# Altium integrated library TI Amplifiers and Linear Operational Amplifier High Speed.IntLib: 1100 symbols (part 3 of 44)
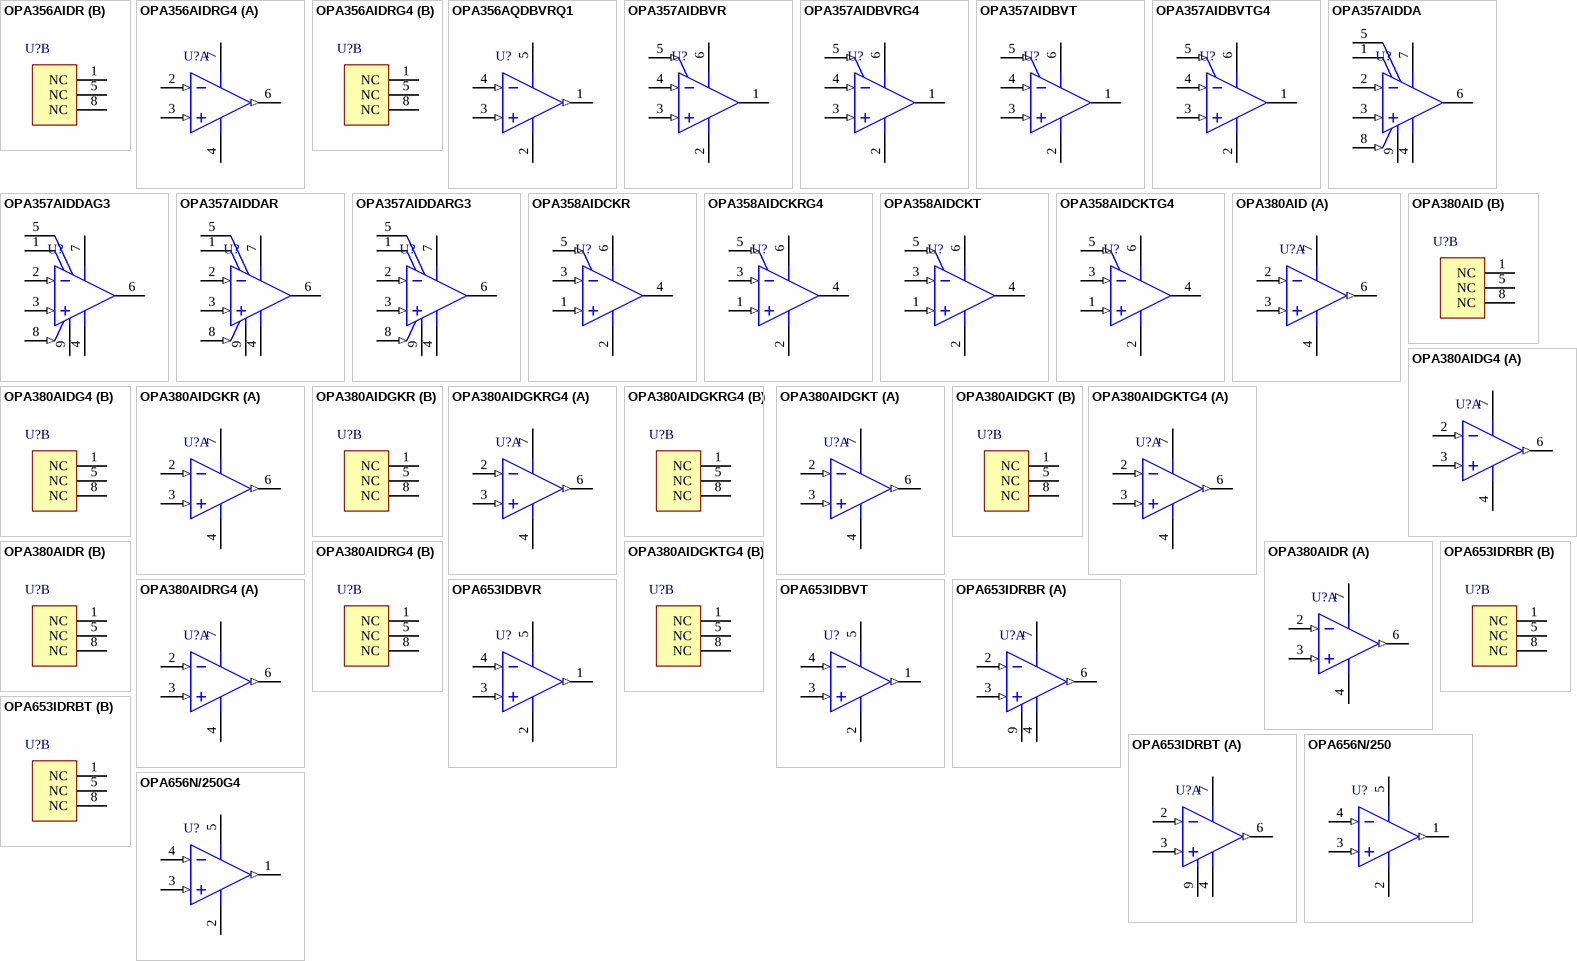
[diagram p53: symbols OPA356AIDR to OPA656N/250G4]

## OPA653IDBVR
designator U?
500 MHz, Fixed Gain of + 2 V/V, JFET Input Amplifier, 7 to 13 V, -40 to 85 degC, 5-pin SOT23 (DBV5), Green (RoHS & no Sb/Br); Manufacturer: Texas Instruments; PartNumber: OPA653IDBVR; 2nd Harmonic(dBc): 72; 3rd Harmonic(dBc): 90; @ MHz: 10; Acl, min stable gain(V/V): 2; BW @ Acl(MHz): 500; Iib(Max)(nA): 1.2; Io(Typ)(mA): 70; Iq per channel(Max)(mA): 33.5; Number of Channels: 1; Slew Rate(Typ)(V/us): 2675; Sub Family: High Output Current Amplifier (>=50mA), High Speed Amplifier (>=50MHz); THD (Fc is 1 MHz)(Typ)(dB): -72; Vio(Max)(mV): 5; Vn at Flatband(Typ)(nV/rtHz): 6.1; Vs(Max)(V): 13; Vs(Min)(V): 7; DatasheetVersion: SBOS348A; PackageVersion: 4073253-4/K, 03/2006; PackageReference: DBV5; PackageDescription: 5-Pin Plastic Small Outline, Body 1.6 x 2.9 mm, Pitch 0.95 mm; Supplier 1: Digi-Key; Supplier Part Number 1: OPA653IDBVR-ND; Supplier 2: Mouser; Supplier Part Number 2: 595-OPA653IDBVR; Eco-Plan: Green (RoHS & no Sb/Br); Mounting Technology: Surface Mount; Code_JEDEC: MO-178; ComponentLink1Description: Manufacturer URL; ComponentLink1URL: http://www.ti.com/; ComponentLink2Description: Datasheet; ComponentLink2URL: http://www.ti.com/general/docs/lit/getliterature.tsp?genericPartNumber=OPA653&fileType=pdf; ComponentLink3Description: Package Specification; ComponentLink3URL: http://www.ti.com/litv/pdf/mpds018i
footprint TI-DBV5_N (SOT23, 5-Leads, Body 2.9x1.6mm, Pitch 0.95mm, IPC Medium Density)
footprint TI-DBV5_L (SOT23, 5-Leads, Body 2.9x1.6mm, Pitch 0.95mm, IPC High Density)
footprint TI-DBV5_M (SOT23, 5-Leads, Body 2.9x1.6mm, Pitch 0.95mm, IPC Low Density)
pins: 1 VOUT (out), 2 VS- (power), 3 VIN+ (in), 4 VIN- (in), 5 VS+ (power)

## OPA653IDBVT
designator U?
500 MHz, Fixed Gain of + 2 V/V, JFET Input Amplifier, 7 to 13 V, -40 to 85 degC, 5-pin SOT23 (DBV5), Green (RoHS & no Sb/Br); Manufacturer: Texas Instruments; PartNumber: OPA653IDBVT; 2nd Harmonic(dBc): 72; 3rd Harmonic(dBc): 90; @ MHz: 10; Acl, min stable gain(V/V): 2; BW @ Acl(MHz): 500; Iib(Max)(nA): 1.2; Io(Typ)(mA): 70; Iq per channel(Max)(mA): 33.5; Number of Channels: 1; Slew Rate(Typ)(V/us): 2675; Sub Family: High Output Current Amplifier (>=50mA), High Speed Amplifier (>=50MHz); THD (Fc is 1 MHz)(Typ)(dB): -72; Vio(Max)(mV): 5; Vn at Flatband(Typ)(nV/rtHz): 6.1; Vs(Max)(V): 13; Vs(Min)(V): 7; DatasheetVersion: SBOS348A; PackageVersion: 4073253-4/K, 03/2006; PackageReference: DBV5; PackageDescription: 5-Pin Plastic Small Outline, Body 1.6 x 2.9 mm, Pitch 0.95 mm; Supplier 1: Digi-Key; Supplier Part Number 1: 296-25788-2-ND; Supplier 2: Digi-Key; Supplier Part Number 2: 296-25788-1-ND; Supplier 3: Digi-Key; Supplier Part Number 3: 296-25788-6-ND; Supplier 4: Mouser; Supplier Part Number 4: 595-OPA653IDBVT; Eco-Plan: Green (RoHS & no Sb/Br); Mounting Technology: Surface Mount; Code_JEDEC: MO-178; ComponentLink1Description: Manufacturer URL; ComponentLink1URL: http://www.ti.com/; ComponentLink2Description: Datasheet; ComponentLink2URL: http://www.ti.com/general/docs/lit/getliterature.tsp?genericPartNumber=OPA653&fileType=pdf; ComponentLink3Description: Package Specification; ComponentLink3URL: http://www.ti.com/litv/pdf/mpds018i
footprint TI-DBV5_N (SOT23, 5-Leads, Body 2.9x1.6mm, Pitch 0.95mm, IPC Medium Density)
footprint TI-DBV5_L (SOT23, 5-Leads, Body 2.9x1.6mm, Pitch 0.95mm, IPC High Density)
footprint TI-DBV5_M (SOT23, 5-Leads, Body 2.9x1.6mm, Pitch 0.95mm, IPC Low Density)
pins: 1 VOUT (out), 2 VS- (power), 3 VIN+ (in), 4 VIN- (in), 5 VS+ (power)

## OPA653IDRBR
designator U?
500 MHz, Fixed Gain of + 2 V/V, JFET Input Amplifier, 7 to 13 V, -40 to 85 degC, 8-pin SON (DRB8), Green (RoHS & no Sb/Br); Manufacturer: Texas Instruments; PartNumber: OPA653IDRBR; 2nd Harmonic(dBc): 72; 3rd Harmonic(dBc): 90; @ MHz: 10; Acl, min stable gain(V/V): 2; BW @ Acl(MHz): 500; Iib(Max)(nA): 1.2; Io(Typ)(mA): 70; Iq per channel(Max)(mA): 33.5; Number of Channels: 1; Slew Rate(Typ)(V/us): 2675; Sub Family: High Output Current Amplifier (>=50mA), High Speed Amplifier (>=50MHz); THD (Fc is 1 MHz)(Typ)(dB): -72; Vio(Max)(mV): 5; Vn at Flatband(Typ)(nV/rtHz): 6.1; Vs(Max)(V): 13; Vs(Min)(V): 7; DatasheetVersion: SBOS348A; PackageVersion: 4203482-2/K, 06/2012; PackageReference: DRB8-1750X1500TP; PackageDescription: 8-Pin Plastic Small Outline, Body 3 x 3 mm, Pitch 0.65 mm; Supplier 1: Digi-Key; Supplier Part Number 1: OPA653IDRBR-ND; Supplier 2: Mouser; Supplier Part Number 2: 595-OPA653IDRBR; Eco-Plan: Green (RoHS & no Sb/Br); Mounting Technology: Surface Mount; ComponentLink1Description: Manufacturer URL; ComponentLink1URL: http://www.ti.com/; ComponentLink2Description: Datasheet; ComponentLink2URL: http://www.ti.com/general/docs/lit/getliterature.tsp?genericPartNumber=OPA653&fileType=pdf; ComponentLink3Description: Package Specification; ComponentLink3URL: http://www.ti.com/litv/pdf/mpds118h
footprint TI-DRB8-1750X1500TP_V (SON, 8-Leads, Body 3x3mm, Pitch 0.65mm, Thermal Pad 1.50 x 3.8mm)
part A pins: 2 VIN- (in), 3 VIN+ (in), 4 VS- (power), 6 VOUT (out), 7 VS+ (power), 9 EP
part B pins: 1 NC, 5 NC, 8 NC

## OPA653IDRBT
designator U?
500 MHz, Fixed Gain of + 2 V/V, JFET Input Amplifier, 7 to 13 V, -40 to 85 degC, 8-pin SON (DRB8), Green (RoHS & no Sb/Br); Manufacturer: Texas Instruments; PartNumber: OPA653IDRBT; 2nd Harmonic(dBc): 72; 3rd Harmonic(dBc): 90; @ MHz: 10; Acl, min stable gain(V/V): 2; BW @ Acl(MHz): 500; Iib(Max)(nA): 1.2; Io(Typ)(mA): 70; Iq per channel(Max)(mA): 33.5; Number of Channels: 1; Settling Time (0.1%)(Typ)(ns): 7.9; Slew Rate(Typ)(V/us): 2675; Sub Family: High Output Current Amplifier (>=50mA), High Speed Amplifier (>=50MHz); THD (Fc is 1 MHz)(Typ)(dB): -72; Vio(Max)(mV): 5; Vn at Flatband(Typ)(nV/rtHz): 6.1; Vs(Max)(V): 13; Vs(Min)(V): 7; DatasheetVersion: SBOS348A; PackageVersion: 4203482-2/K, 06/2012; PackageReference: DRB8-1750X1500TP; PackageDescription: 8-Pin Plastic Small Outline, Body 3 x 3 mm, Pitch 0.65 mm; Supplier 1: Digi-Key; Supplier Part Number 1: 296-24073-2-ND; Supplier 2: Digi-Key; Supplier Part Number 2: 296-24073-1-ND; Supplier 3: Digi-Key; Supplier Part Number 3: 296-24073-6-ND; Supplier 4: Farnell; Supplier Part Number 4: 1710800; Supplier 5: Newark; Supplier Part Number 5: 15R2147; Supplier 6: Mouser; Supplier Part Number 6: 595-OPA653IDRBT; Eco-Plan: Green (RoHS & no Sb/Br); Mounting Technology: Surface Mount; ComponentLink1Description: Manufacturer URL; ComponentLink1URL: http://www.ti.com/; ComponentLink2Description: Datasheet; ComponentLink2URL: http://www.ti.com/general/docs/lit/getliterature.tsp?genericPartNumber=OPA653&fileType=pdf; ComponentLink3Description: Package Specification; ComponentLink3URL: http://www.ti.com/litv/pdf/mpds118h
footprint TI-DRB8-1750X1500TP_V (SON, 8-Leads, Body 3x3mm, Pitch 0.65mm, Thermal Pad 1.50 x 3.8mm)
part A pins: 2 VIN- (in), 3 VIN+ (in), 4 VS- (power), 6 VOUT (out), 7 VS+ (power), 9 EP
part B pins: 1 NC, 5 NC, 8 NC

## OPA656N/250
designator U?
Wideband, Unity Gain Stable FET-Input Operational Amplifier, 10 to 12 V, -40 to 85 degC, 5-pin SOT23 (DBV5), Green (RoHS & no Sb/Br); Manufacturer: Texas Instruments; PartNumber: OPA656N/250; 2nd Harmonic(dBc): 74; 3rd Harmonic(dBc): 100; @ MHz: 5; Acl, min stable gain(V/V): 1; BW @ Acl(MHz): 500; Diff Gain(%): 0.02; Diff Phase(deg): 0.05; Io(Typ)(mA): 70; Iq per channel(Max)(mA): 16; Slew Rate(Typ)(V/us): 290; Sub Family: High Output Current Amplifier (>=50mA), High Speed Amplifier (>=50MHz), Low Input Bias Current Amp (<=10pA); THD (Fc is 1 MHz)(Typ)(dB): -74; Vio(Max)(mV): 0.6; Vn at Flatband(Typ)(nV/rtHz): 7; Vs(Max)(V): 12; Vs(Min)(V): 10; DatasheetVersion: SBOS196G; PackageVersion: 4073253-4/K, 03/2006; PackageReference: DBV5; PackageDescription: 5-Pin Plastic Small Outline, Body 1.6 x 2.9 mm, Pitch 0.95 mm; Supplier 1: Digi-Key; Supplier Part Number 1: OPA656N/250TR-ND; Supplier 2: Digi-Key; Supplier Part Number 2: OPA656N/250CT-ND; Supplier 3: Digi-Key; Supplier Part Number 3: OPA656N/250DKR-ND; Supplier 4: Newark; Supplier Part Number 4: 86W6764; Supplier 5: Newark; Supplier Part Number 5: 75C5133; Supplier 6: Mouser; Supplier Part Number 6: 595-OPA656N/250; Eco-Plan: Green (RoHS & no Sb/Br); Iib(Max)(nA): 0.02; Number of Channels: 1; Settling Time (0.1%)(Typ)(ns): 16; Mounting Technology: Surface Mount; Code_JEDEC: MO-178; ComponentLink1Description: Manufacturer URL; ComponentLink1URL: http://www.ti.com/; ComponentLink2Description: Datasheet; ComponentLink2URL: http://www.ti.com/general/docs/lit/getliterature.tsp?genericPartNumber=OPA656&fileType=pdf; ComponentLink3Description: Package Specification; ComponentLink3URL: http://www.ti.com/litv/pdf/mpds018i
footprint TI-DBV5_N (SOT23, 5-Leads, Body 2.9x1.6mm, Pitch 0.95mm, IPC Medium Density)
footprint TI-DBV5_L (SOT23, 5-Leads, Body 2.9x1.6mm, Pitch 0.95mm, IPC High Density)
footprint TI-DBV5_M (SOT23, 5-Leads, Body 2.9x1.6mm, Pitch 0.95mm, IPC Low Density)
pins: 1 OUT (out), 2 VS- (power), 3 IN+ (in), 4 IN- (in), 5 VS+ (power)

## OPA656N/250G4
designator U?
Wideband, Unity Gain Stable FET-Input Operational Amplifier, 10 to 12 V, -40 to 85 degC, 5-pin SOT23 (DBV5), Green (RoHS & no Sb/Br); Manufacturer: Texas Instruments; PartNumber: OPA656N/250G4; 2nd Harmonic(dBc): 74; 3rd Harmonic(dBc): 100; @ MHz: 5; Acl, min stable gain(V/V): 1; BW @ Acl(MHz): 500; Diff Gain(%): 0.02; Diff Phase(deg): 0.05; Io(Typ)(mA): 70; Iq per channel(Max)(mA): 16; Slew Rate(Typ)(V/us): 290; Sub Family: High Output Current Amplifier (>=50mA), High Speed Amplifier (>=50MHz), Low Input Bias Current Amp (<=10pA); THD (Fc is 1 MHz)(Typ)(dB): -74; Vio(Max)(mV): 0.6; Vn at Flatband(Typ)(nV/rtHz): 7; Vs(Max)(V): 12; Vs(Min)(V): 10; DatasheetVersion: SBOS196G; PackageVersion: 4073253-4/K, 03/2006; PackageReference: DBV5; PackageDescription: 5-Pin Plastic Small Outline, Body 1.6 x 2.9 mm, Pitch 0.95 mm; Supplier 1: Digi-Key; Supplier Part Number 1: OPA656N/250G4-ND; Supplier 2: Mouser; Supplier Part Number 2: 595-OPA656N/250G4; Eco-Plan: Green (RoHS & no Sb/Br); Iib(Max)(nA): 0.02; Number of Channels: 1; Settling Time (0.1%)(Typ)(ns): 16; Mounting Technology: Surface Mount; Code_JEDEC: MO-178; ComponentLink1Description: Manufacturer URL; ComponentLink1URL: http://www.ti.com/; ComponentLink2Description: Datasheet; ComponentLink2URL: http://www.ti.com/general/docs/lit/getliterature.tsp?genericPartNumber=OPA656&fileType=pdf; ComponentLink3Description: Package Specification; ComponentLink3URL: http://www.ti.com/litv/pdf/mpds018i
footprint TI-DBV5_N (SOT23, 5-Leads, Body 2.9x1.6mm, Pitch 0.95mm, IPC Medium Density)
footprint TI-DBV5_L (SOT23, 5-Leads, Body 2.9x1.6mm, Pitch 0.95mm, IPC High Density)
footprint TI-DBV5_M (SOT23, 5-Leads, Body 2.9x1.6mm, Pitch 0.95mm, IPC Low Density)
pins: 1 OUT (out), 2 VS- (power), 3 IN+ (in), 4 IN- (in), 5 VS+ (power)

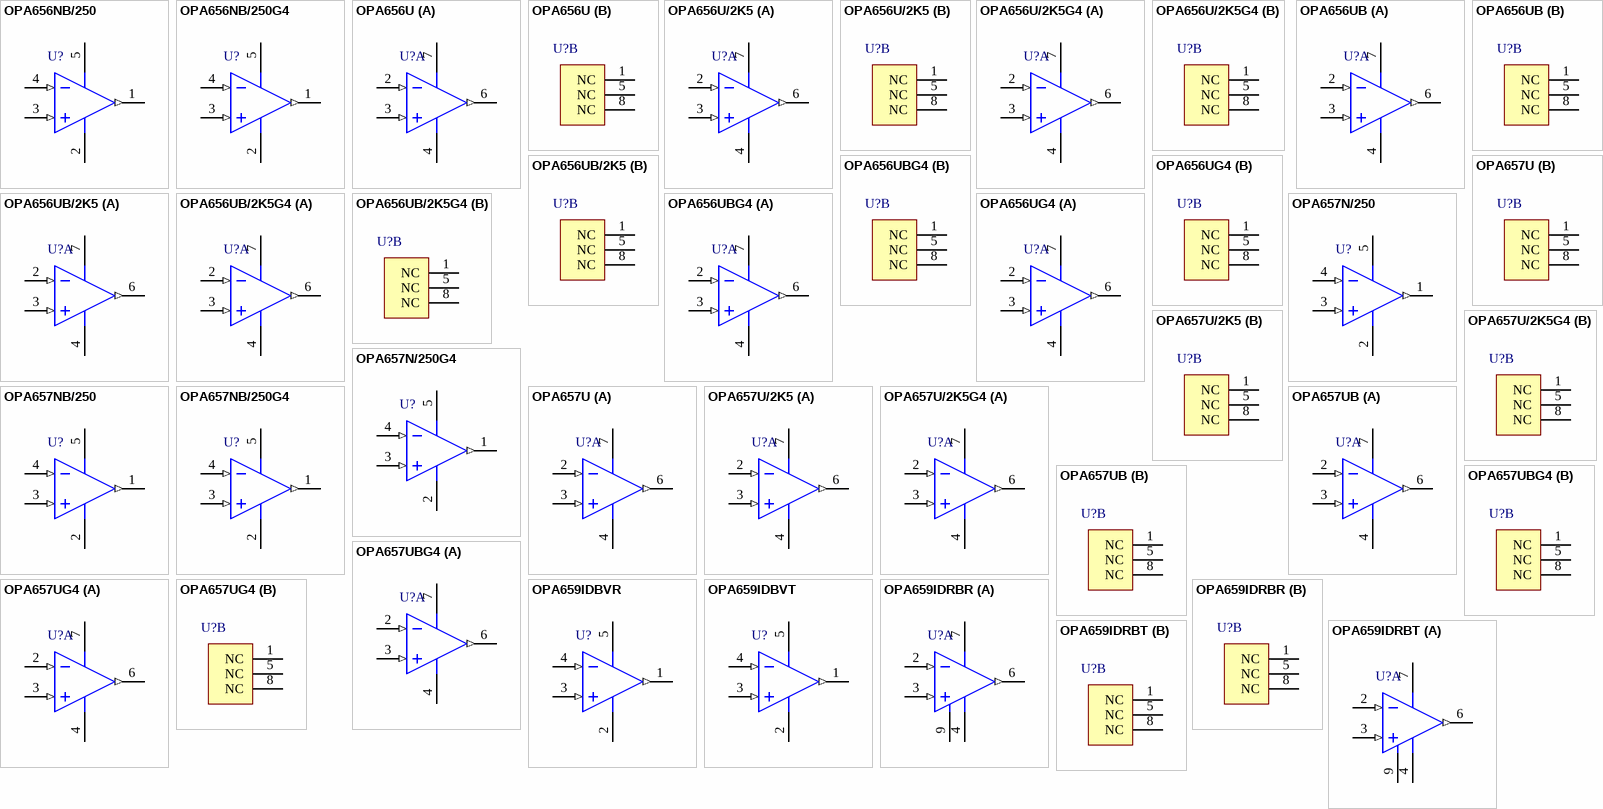
[diagram p2: symbols OPA656NB/250 to OPA659IDRBT]

## OPA656NB/250
designator U?
Wideband, Unity Gain Stable FET-Input Operational Amplifier, 10 to 12 V, -40 to 85 degC, 5-pin SOT23 (DBV5), Green (RoHS & no Sb/Br); Manufacturer: Texas Instruments; PartNumber: OPA656NB/250; 2nd Harmonic(dBc): 74; 3rd Harmonic(dBc): 100; @ MHz: 5; Acl, min stable gain(V/V): 1; BW @ Acl(MHz): 500; Diff Gain(%): 0.02; Diff Phase(deg): 0.05; Io(Typ)(mA): 70; Iq per channel(Max)(mA): 16; Slew Rate(Typ)(V/us): 290; Sub Family: High Output Current Amplifier (>=50mA), High Speed Amplifier (>=50MHz), Low Input Bias Current Amp (<=10pA); THD (Fc is 1 MHz)(Typ)(dB): -74; Vio(Max)(mV): 0.6; Vn at Flatband(Typ)(nV/rtHz): 7; Vs(Max)(V): 12; Vs(Min)(V): 10; DatasheetVersion: SBOS196G; PackageVersion: 4073253-4/K, 03/2006; PackageReference: DBV5; PackageDescription: 5-Pin Plastic Small Outline, Body 1.6 x 2.9 mm, Pitch 0.95 mm; Supplier 1: Digi-Key; Supplier Part Number 1: OPA656NB/250TR-ND; Supplier 2: Digi-Key; Supplier Part Number 2: OPA656NB/250CT-ND; Supplier 3: Digi-Key; Supplier Part Number 3: OPA656NB/250DKR-ND; Supplier 4: Newark; Supplier Part Number 4: 28M9263; Supplier 5: Mouser; Supplier Part Number 5: 595-OPA656NB/250; Eco-Plan: Green (RoHS & no Sb/Br); Iib(Max)(nA): 0.02; Number of Channels: 1; Settling Time (0.1%)(Typ)(ns): 16; Mounting Technology: Surface Mount; Code_JEDEC: MO-178; ComponentLink1Description: Manufacturer URL; ComponentLink1URL: http://www.ti.com/; ComponentLink2Description: Datasheet; ComponentLink2URL: http://www.ti.com/general/docs/lit/getliterature.tsp?genericPartNumber=OPA656&fileType=pdf; ComponentLink3Description: Package Specification; ComponentLink3URL: http://www.ti.com/litv/pdf/mpds018i
footprint TI-DBV5_N (SOT23, 5-Leads, Body 2.9x1.6mm, Pitch 0.95mm, IPC Medium Density)
footprint TI-DBV5_L (SOT23, 5-Leads, Body 2.9x1.6mm, Pitch 0.95mm, IPC High Density)
footprint TI-DBV5_M (SOT23, 5-Leads, Body 2.9x1.6mm, Pitch 0.95mm, IPC Low Density)
pins: 1 OUT (out), 2 VS- (power), 3 IN+ (in), 4 IN- (in), 5 VS+ (power)

## OPA656NB/250G4
designator U?
Wideband, Unity Gain Stable FET-Input Operational Amplifier, 10 to 12 V, -40 to 85 degC, 5-pin SOT23 (DBV5), Green (RoHS & no Sb/Br); Manufacturer: Texas Instruments; PartNumber: OPA656NB/250G4; 2nd Harmonic(dBc): 74; 3rd Harmonic(dBc): 100; @ MHz: 5; Acl, min stable gain(V/V): 1; BW @ Acl(MHz): 500; Diff Gain(%): 0.02; Diff Phase(deg): 0.05; Io(Typ)(mA): 70; Iq per channel(Max)(mA): 16; Slew Rate(Typ)(V/us): 290; Sub Family: High Output Current Amplifier (>=50mA), High Speed Amplifier (>=50MHz), Low Input Bias Current Amp (<=10pA); THD (Fc is 1 MHz)(Typ)(dB): -74; Vio(Max)(mV): 0.6; Vn at Flatband(Typ)(nV/rtHz): 7; Vs(Max)(V): 12; Vs(Min)(V): 10; DatasheetVersion: SBOS196G; PackageVersion: 4073253-4/K, 03/2006; PackageReference: DBV5; PackageDescription: 5-Pin Plastic Small Outline, Body 1.6 x 2.9 mm, Pitch 0.95 mm; Supplier 1: Digi-Key; Supplier Part Number 1: OPA656NB/250G4-ND; Supplier 2: Mouser; Supplier Part Number 2: 595-OPA656NB/250G4; Eco-Plan: Green (RoHS & no Sb/Br); Iib(Max)(nA): 0.02; Number of Channels: 1; Settling Time (0.1%)(Typ)(ns): 16; Mounting Technology: Surface Mount; Code_JEDEC: MO-178; ComponentLink1Description: Manufacturer URL; ComponentLink1URL: http://www.ti.com/; ComponentLink2Description: Datasheet; ComponentLink2URL: http://www.ti.com/general/docs/lit/getliterature.tsp?genericPartNumber=OPA656&fileType=pdf; ComponentLink3Description: Package Specification; ComponentLink3URL: http://www.ti.com/litv/pdf/mpds018i
footprint TI-DBV5_N (SOT23, 5-Leads, Body 2.9x1.6mm, Pitch 0.95mm, IPC Medium Density)
footprint TI-DBV5_L (SOT23, 5-Leads, Body 2.9x1.6mm, Pitch 0.95mm, IPC High Density)
footprint TI-DBV5_M (SOT23, 5-Leads, Body 2.9x1.6mm, Pitch 0.95mm, IPC Low Density)
pins: 1 OUT (out), 2 VS- (power), 3 IN+ (in), 4 IN- (in), 5 VS+ (power)

## OPA656U
designator U?
Wideband, Unity Gain Stable FET-Input Operational Amplifier, 10 to 12 V, -40 to 85 degC, 8-pin SOIC (D8), Green (RoHS & no Sb/Br); Manufacturer: Texas Instruments; PartNumber: OPA656U; 2nd Harmonic(dBc): 74; 3rd Harmonic(dBc): 100; @ MHz: 5; Acl, min stable gain(V/V): 1; BW @ Acl(MHz): 500; Diff Gain(%): 0.02; Diff Phase(deg): 0.05; Io(Typ)(mA): 70; Iq per channel(Max)(mA): 16; Slew Rate(Typ)(V/us): 290; Sub Family: High Output Current Amplifier (>=50mA), High Speed Amplifier (>=50MHz), Low Input Bias Current Amp (<=10pA); THD (Fc is 1 MHz)(Typ)(dB): -74; Vio(Max)(mV): 0.6; Vn at Flatband(Typ)(nV/rtHz): 7; Vs(Max)(V): 12; Vs(Min)(V): 10; DatasheetVersion: SBOS196G; PackageVersion: 4040047-3/M, 06/2011; PackageReference: D8; PackageDescription: 8-Pin Plastic Small Outline, Body 4.9 x 3.9 mm, Pitch 1.27 mm; Supplier 1: Digi-Key; Supplier Part Number 1: OPA656U-ND; Supplier 2: Farnell; Supplier Part Number 2: 1212322; Supplier 3: Newark; Supplier Part Number 3: 75C5137; Supplier 4: Mouser; Supplier Part Number 4: 595-OPA656U; Eco-Plan: Green (RoHS & no Sb/Br); Iib(Max)(nA): 0.02; Number of Channels: 1; Settling Time (0.1%)(Typ)(ns): 16; Mounting Technology: Surface Mount; Code_JEDEC: MS-012; ComponentLink1Description: Manufacturer URL; ComponentLink1URL: http://www.ti.com/; ComponentLink2Description: Datasheet; ComponentLink2URL: http://www.ti.com/general/docs/lit/getliterature.tsp?genericPartNumber=OPA656&fileType=pdf; ComponentLink3Description: Package Specification; ComponentLink3URL: http://www.ti.com/litv/pdf/msoi002j
footprint TI-D8_N (SOIC, 8-Leads, Body 4.9x3.9mm, Pitch 1.27mm, IPC Medium Density)
footprint TI-D8_L (SOIC, 8-Leads, Body 4.9x3.9mm, Pitch 1.27mm, IPC High Density)
footprint TI-D8_M (SOIC, 8-Leads, Body 4.9x3.9mm, Pitch 1.27mm, IPC Low Density)
part A pins: 2 IN- (in), 3 IN+ (in), 4 VS- (power), 6 OUT (out), 7 VS+ (power)
part B pins: 1 NC, 5 NC, 8 NC

## OPA656U/2K5
designator U?
Wideband, Unity Gain Stable FET-Input Operational Amplifier, 10 to 12 V, -40 to 85 degC, 8-pin SOIC (D8), Green (RoHS & no Sb/Br); Manufacturer: Texas Instruments; PartNumber: OPA656U/2K5; 2nd Harmonic(dBc): 74; 3rd Harmonic(dBc): 100; @ MHz: 5; Acl, min stable gain(V/V): 1; BW @ Acl(MHz): 500; Diff Gain(%): 0.02; Diff Phase(deg): 0.05; Io(Typ)(mA): 70; Iq per channel(Max)(mA): 16; Slew Rate(Typ)(V/us): 290; Sub Family: High Output Current Amplifier (>=50mA), High Speed Amplifier (>=50MHz), Low Input Bias Current Amp (<=10pA); THD (Fc is 1 MHz)(Typ)(dB): -74; Vio(Max)(mV): 0.6; Vn at Flatband(Typ)(nV/rtHz): 7; Vs(Max)(V): 12; Vs(Min)(V): 10; DatasheetVersion: SBOS196G; PackageVersion: 4040047-3/M, 06/2011; PackageReference: D8; PackageDescription: 8-Pin Plastic Small Outline, Body 4.9 x 3.9 mm, Pitch 1.27 mm; Supplier 1: Digi-Key; Supplier Part Number 1: OPA656U/2K5-ND; Supplier 2: Newark; Supplier Part Number 2: 75C5138; Supplier 3: Mouser; Supplier Part Number 3: 595-OPA656U/2K5; Eco-Plan: Green (RoHS & no Sb/Br); Iib(Max)(nA): 0.02; Number of Channels: 1; Settling Time (0.1%)(Typ)(ns): 16; Mounting Technology: Surface Mount; Code_JEDEC: MS-012; ComponentLink1Description: Manufacturer URL; ComponentLink1URL: http://www.ti.com/; ComponentLink2Description: Datasheet; ComponentLink2URL: http://www.ti.com/general/docs/lit/getliterature.tsp?genericPartNumber=OPA656&fileType=pdf; ComponentLink3Description: Package Specification; ComponentLink3URL: http://www.ti.com/litv/pdf/msoi002j
footprint TI-D8_N (SOIC, 8-Leads, Body 4.9x3.9mm, Pitch 1.27mm, IPC Medium Density)
footprint TI-D8_L (SOIC, 8-Leads, Body 4.9x3.9mm, Pitch 1.27mm, IPC High Density)
footprint TI-D8_M (SOIC, 8-Leads, Body 4.9x3.9mm, Pitch 1.27mm, IPC Low Density)
part A pins: 2 IN- (in), 3 IN+ (in), 4 VS- (power), 6 OUT (out), 7 VS+ (power)
part B pins: 1 NC, 5 NC, 8 NC

## OPA656U/2K5G4
designator U?
Wideband, Unity Gain Stable FET-Input Operational Amplifier, 10 to 12 V, -40 to 85 degC, 8-pin SOIC (D8), Green (RoHS & no Sb/Br); Manufacturer: Texas Instruments; PartNumber: OPA656U/2K5G4; 2nd Harmonic(dBc): 74; 3rd Harmonic(dBc): 100; @ MHz: 5; Acl, min stable gain(V/V): 1; BW @ Acl(MHz): 500; Diff Gain(%): 0.02; Diff Phase(deg): 0.05; Io(Typ)(mA): 70; Iq per channel(Max)(mA): 16; Slew Rate(Typ)(V/us): 290; Sub Family: High Output Current Amplifier (>=50mA), High Speed Amplifier (>=50MHz), Low Input Bias Current Amp (<=10pA); THD (Fc is 1 MHz)(Typ)(dB): -74; Vio(Max)(mV): 0.6; Vn at Flatband(Typ)(nV/rtHz): 7; Vs(Max)(V): 12; Vs(Min)(V): 10; DatasheetVersion: SBOS196G; PackageVersion: 4040047-3/M, 06/2011; PackageReference: D8; PackageDescription: 8-Pin Plastic Small Outline, Body 4.9 x 3.9 mm, Pitch 1.27 mm; Supplier 1: Digi-Key; Supplier Part Number 1: OPA656U/2K5G4-ND; Supplier 2: Newark; Supplier Part Number 2: 14M2150; Supplier 3: Mouser; Supplier Part Number 3: 595-OPA656U/2K5G4; Eco-Plan: Green (RoHS & no Sb/Br); Iib(Max)(nA): 0.02; Number of Channels: 1; Settling Time (0.1%)(Typ)(ns): 16; Mounting Technology: Surface Mount; Code_JEDEC: MS-012; ComponentLink1Description: Manufacturer URL; ComponentLink1URL: http://www.ti.com/; ComponentLink2Description: Datasheet; ComponentLink2URL: http://www.ti.com/general/docs/lit/getliterature.tsp?genericPartNumber=OPA656&fileType=pdf; ComponentLink3Description: Package Specification; ComponentLink3URL: http://www.ti.com/litv/pdf/msoi002j
footprint TI-D8_N (SOIC, 8-Leads, Body 4.9x3.9mm, Pitch 1.27mm, IPC Medium Density)
footprint TI-D8_L (SOIC, 8-Leads, Body 4.9x3.9mm, Pitch 1.27mm, IPC High Density)
footprint TI-D8_M (SOIC, 8-Leads, Body 4.9x3.9mm, Pitch 1.27mm, IPC Low Density)
part A pins: 2 IN- (in), 3 IN+ (in), 4 VS- (power), 6 OUT (out), 7 VS+ (power)
part B pins: 1 NC, 5 NC, 8 NC

## OPA656UB
designator U?
Wideband, Unity Gain Stable FET-Input Operational Amplifier, 10 to 12 V, -40 to 85 degC, 8-pin SOIC (D8), Green (RoHS & no Sb/Br); Manufacturer: Texas Instruments; PartNumber: OPA656UB; 2nd Harmonic(dBc): 74; 3rd Harmonic(dBc): 100; @ MHz: 5; Acl, min stable gain(V/V): 1; BW @ Acl(MHz): 500; Diff Gain(%): 0.02; Diff Phase(deg): 0.05; Io(Typ)(mA): 70; Iq per channel(Max)(mA): 16; Slew Rate(Typ)(V/us): 290; Sub Family: High Output Current Amplifier (>=50mA), High Speed Amplifier (>=50MHz), Low Input Bias Current Amp (<=10pA); THD (Fc is 1 MHz)(Typ)(dB): -74; Vio(Max)(mV): 0.6; Vn at Flatband(Typ)(nV/rtHz): 7; Vs(Max)(V): 12; Vs(Min)(V): 10; DatasheetVersion: SBOS196G; PackageVersion: 4040047-3/M, 06/2011; PackageReference: D8; PackageDescription: 8-Pin Plastic Small Outline, Body 4.9 x 3.9 mm, Pitch 1.27 mm; Supplier 1: Digi-Key; Supplier Part Number 1: OPA656UB-ND; Supplier 2: Farnell; Supplier Part Number 2: 1651886; Supplier 3: Newark; Supplier Part Number 3: 20M1356; Supplier 4: Mouser; Supplier Part Number 4: 595-OPA656UB; Eco-Plan: Green (RoHS & no Sb/Br); Iib(Max)(nA): 0.02; Number of Channels: 1; Settling Time (0.1%)(Typ)(ns): 16; Mounting Technology: Surface Mount; Code_JEDEC: MS-012; ComponentLink1Description: Manufacturer URL; ComponentLink1URL: http://www.ti.com/; ComponentLink2Description: Datasheet; ComponentLink2URL: http://www.ti.com/general/docs/lit/getliterature.tsp?genericPartNumber=OPA656&fileType=pdf; ComponentLink3Description: Package Specification; ComponentLink3URL: http://www.ti.com/litv/pdf/msoi002j
footprint TI-D8_N (SOIC, 8-Leads, Body 4.9x3.9mm, Pitch 1.27mm, IPC Medium Density)
footprint TI-D8_L (SOIC, 8-Leads, Body 4.9x3.9mm, Pitch 1.27mm, IPC High Density)
footprint TI-D8_M (SOIC, 8-Leads, Body 4.9x3.9mm, Pitch 1.27mm, IPC Low Density)
part A pins: 2 IN- (in), 3 IN+ (in), 4 VS- (power), 6 OUT (out), 7 VS+ (power)
part B pins: 1 NC, 5 NC, 8 NC

## OPA656UB/2K5
designator U?
Wideband, Unity Gain Stable FET-Input Operational Amplifier, 10 to 12 V, -40 to 85 degC, 8-pin SOIC (D8), Green (RoHS & no Sb/Br); Manufacturer: Texas Instruments; PartNumber: OPA656UB/2K5; 2nd Harmonic(dBc): 74; 3rd Harmonic(dBc): 100; @ MHz: 5; Acl, min stable gain(V/V): 1; BW @ Acl(MHz): 500; Diff Gain(%): 0.02; Diff Phase(deg): 0.05; Io(Typ)(mA): 70; Iq per channel(Max)(mA): 16; Slew Rate(Typ)(V/us): 290; Sub Family: High Output Current Amplifier (>=50mA), High Speed Amplifier (>=50MHz), Low Input Bias Current Amp (<=10pA); THD (Fc is 1 MHz)(Typ)(dB): -74; Vio(Max)(mV): 0.6; Vn at Flatband(Typ)(nV/rtHz): 7; Vs(Max)(V): 12; Vs(Min)(V): 10; DatasheetVersion: SBOS196G; PackageVersion: 4040047-3/M, 06/2011; PackageReference: D8; PackageDescription: 8-Pin Plastic Small Outline, Body 4.9 x 3.9 mm, Pitch 1.27 mm; Supplier 1: Digi-Key; Supplier Part Number 1: OPA656UB/2K5-ND; Supplier 2: Newark; Supplier Part Number 2: 75C5140; Supplier 3: Mouser; Supplier Part Number 3: 595-OPA656UB/2K5; Eco-Plan: Green (RoHS & no Sb/Br); Iib(Max)(nA): 0.02; Number of Channels: 1; Settling Time (0.1%)(Typ)(ns): 16; Mounting Technology: Surface Mount; Code_JEDEC: MS-012; ComponentLink1Description: Manufacturer URL; ComponentLink1URL: http://www.ti.com/; ComponentLink2Description: Datasheet; ComponentLink2URL: http://www.ti.com/general/docs/lit/getliterature.tsp?genericPartNumber=OPA656&fileType=pdf; ComponentLink3Description: Package Specification; ComponentLink3URL: http://www.ti.com/litv/pdf/msoi002j
footprint TI-D8_N (SOIC, 8-Leads, Body 4.9x3.9mm, Pitch 1.27mm, IPC Medium Density)
footprint TI-D8_L (SOIC, 8-Leads, Body 4.9x3.9mm, Pitch 1.27mm, IPC High Density)
footprint TI-D8_M (SOIC, 8-Leads, Body 4.9x3.9mm, Pitch 1.27mm, IPC Low Density)
part A pins: 2 IN- (in), 3 IN+ (in), 4 VS- (power), 6 OUT (out), 7 VS+ (power)
part B pins: 1 NC, 5 NC, 8 NC

## OPA656UB/2K5G4
designator U?
Wideband, Unity Gain Stable FET-Input Operational Amplifier, 10 to 12 V, -40 to 85 degC, 8-pin SOIC (D8), Green (RoHS & no Sb/Br); Manufacturer: Texas Instruments; PartNumber: OPA656UB/2K5G4; 2nd Harmonic(dBc): 74; 3rd Harmonic(dBc): 100; @ MHz: 5; Acl, min stable gain(V/V): 1; BW @ Acl(MHz): 500; Diff Gain(%): 0.02; Diff Phase(deg): 0.05; Io(Typ)(mA): 70; Iq per channel(Max)(mA): 16; Slew Rate(Typ)(V/us): 290; Sub Family: High Output Current Amplifier (>=50mA), High Speed Amplifier (>=50MHz), Low Input Bias Current Amp (<=10pA); THD (Fc is 1 MHz)(Typ)(dB): -74; Vio(Max)(mV): 0.6; Vn at Flatband(Typ)(nV/rtHz): 7; Vs(Max)(V): 12; Vs(Min)(V): 10; DatasheetVersion: SBOS196G; PackageVersion: 4040047-3/M, 06/2011; PackageReference: D8; PackageDescription: 8-Pin Plastic Small Outline, Body 4.9 x 3.9 mm, Pitch 1.27 mm; Supplier 1: Mouser; Supplier Part Number 1: N/A; Eco-Plan: Green (RoHS & no Sb/Br); Iib(Max)(nA): 0.02; Number of Channels: 1; Settling Time (0.1%)(Typ)(ns): 16; Mounting Technology: Surface Mount; Code_JEDEC: MS-012; ComponentLink1Description: Manufacturer URL; ComponentLink1URL: http://www.ti.com/; ComponentLink2Description: Datasheet; ComponentLink2URL: http://www.ti.com/general/docs/lit/getliterature.tsp?genericPartNumber=OPA656&fileType=pdf; ComponentLink3Description: Package Specification; ComponentLink3URL: http://www.ti.com/litv/pdf/msoi002j
footprint TI-D8_N (SOIC, 8-Leads, Body 4.9x3.9mm, Pitch 1.27mm, IPC Medium Density)
footprint TI-D8_L (SOIC, 8-Leads, Body 4.9x3.9mm, Pitch 1.27mm, IPC High Density)
footprint TI-D8_M (SOIC, 8-Leads, Body 4.9x3.9mm, Pitch 1.27mm, IPC Low Density)
part A pins: 2 IN- (in), 3 IN+ (in), 4 VS- (power), 6 OUT (out), 7 VS+ (power)
part B pins: 1 NC, 5 NC, 8 NC

## OPA656UBG4
designator U?
Wideband, Unity Gain Stable FET-Input Operational Amplifier, 10 to 12 V, -40 to 85 degC, 8-pin SOIC (D8), Green (RoHS & no Sb/Br); Manufacturer: Texas Instruments; PartNumber: OPA656UBG4; 2nd Harmonic(dBc): 74; 3rd Harmonic(dBc): 100; @ MHz: 5; Acl, min stable gain(V/V): 1; BW @ Acl(MHz): 500; Diff Gain(%): 0.02; Diff Phase(deg): 0.05; Io(Typ)(mA): 70; Iq per channel(Max)(mA): 16; Slew Rate(Typ)(V/us): 290; Sub Family: High Output Current Amplifier (>=50mA), High Speed Amplifier (>=50MHz), Low Input Bias Current Amp (<=10pA); THD (Fc is 1 MHz)(Typ)(dB): -74; Vio(Max)(mV): 0.6; Vn at Flatband(Typ)(nV/rtHz): 7; Vs(Max)(V): 12; Vs(Min)(V): 10; DatasheetVersion: SBOS196G; PackageVersion: 4040047-3/M, 06/2011; PackageReference: D8; PackageDescription: 8-Pin Plastic Small Outline, Body 4.9 x 3.9 mm, Pitch 1.27 mm; Supplier 1: Digi-Key; Supplier Part Number 1: OPA656UBG4-ND; Supplier 2: Mouser; Supplier Part Number 2: 595-OPA656UBG4; Eco-Plan: Green (RoHS & no Sb/Br); Iib(Max)(nA): 0.02; Number of Channels: 1; Settling Time (0.1%)(Typ)(ns): 16; Mounting Technology: Surface Mount; Code_JEDEC: MS-012; ComponentLink1Description: Manufacturer URL; ComponentLink1URL: http://www.ti.com/; ComponentLink2Description: Datasheet; ComponentLink2URL: http://www.ti.com/general/docs/lit/getliterature.tsp?genericPartNumber=OPA656&fileType=pdf; ComponentLink3Description: Package Specification; ComponentLink3URL: http://www.ti.com/litv/pdf/msoi002j
footprint TI-D8_N (SOIC, 8-Leads, Body 4.9x3.9mm, Pitch 1.27mm, IPC Medium Density)
footprint TI-D8_L (SOIC, 8-Leads, Body 4.9x3.9mm, Pitch 1.27mm, IPC High Density)
footprint TI-D8_M (SOIC, 8-Leads, Body 4.9x3.9mm, Pitch 1.27mm, IPC Low Density)
part A pins: 2 IN- (in), 3 IN+ (in), 4 VS- (power), 6 OUT (out), 7 VS+ (power)
part B pins: 1 NC, 5 NC, 8 NC

## OPA656UG4
designator U?
Wideband, Unity Gain Stable FET-Input Operational Amplifier, 10 to 12 V, -40 to 85 degC, 8-pin SOIC (D8), Green (RoHS & no Sb/Br); Manufacturer: Texas Instruments; PartNumber: OPA656UG4; 2nd Harmonic(dBc): 74; 3rd Harmonic(dBc): 100; @ MHz: 5; Acl, min stable gain(V/V): 1; BW @ Acl(MHz): 500; Diff Gain(%): 0.02; Diff Phase(deg): 0.05; Io(Typ)(mA): 70; Iq per channel(Max)(mA): 16; Slew Rate(Typ)(V/us): 290; Sub Family: High Output Current Amplifier (>=50mA), High Speed Amplifier (>=50MHz), Low Input Bias Current Amp (<=10pA); THD (Fc is 1 MHz)(Typ)(dB): -74; Vio(Max)(mV): 2.6; Vn at Flatband(Typ)(nV/rtHz): 7; Vs(Max)(V): 12; Vs(Min)(V): 10; DatasheetVersion: SBOS196G; PackageVersion: 4040047-3/M, 06/2011; PackageReference: D8; PackageDescription: 8-Pin Plastic Small Outline, Body 4.9 x 3.9 mm, Pitch 1.27 mm; Supplier 1: Digi-Key; Supplier Part Number 1: OPA656UG4-ND; Supplier 2: Newark; Supplier Part Number 2: 18M2707; Supplier 3: Mouser; Supplier Part Number 3: 595-OPA656UG4; Eco-Plan: Green (RoHS & no Sb/Br); Iib(Max)(nA): 0.02; Number of Channels: 1; Settling Time (0.1%)(Typ)(ns): 16; Mounting Technology: Surface Mount; Code_JEDEC: MS-012; ComponentLink1Description: Manufacturer URL; ComponentLink1URL: http://www.ti.com/; ComponentLink2Description: Datasheet; ComponentLink2URL: http://www.ti.com/general/docs/lit/getliterature.tsp?genericPartNumber=OPA656&fileType=pdf; ComponentLink3Description: Package Specification; ComponentLink3URL: http://www.ti.com/litv/pdf/msoi002j
footprint TI-D8_N (SOIC, 8-Leads, Body 4.9x3.9mm, Pitch 1.27mm, IPC Medium Density)
footprint TI-D8_L (SOIC, 8-Leads, Body 4.9x3.9mm, Pitch 1.27mm, IPC High Density)
footprint TI-D8_M (SOIC, 8-Leads, Body 4.9x3.9mm, Pitch 1.27mm, IPC Low Density)
part A pins: 2 IN- (in), 3 IN+ (in), 4 VS- (power), 6 OUT (out), 7 VS+ (power)
part B pins: 1 NC, 5 NC, 8 NC

## OPA657N/250
designator U?
1.6 GHz, Low Noise, Fet-Input Operational Amplifier, 8 to 12 V, -40 to 85 degC, 5-pin SOT23 (DBV5), Green (RoHS & no Sb/Br); Manufacturer: Texas Instruments; PartNumber: OPA657N/250; 2nd Harmonic(dBc): 74; 3rd Harmonic(dBc): 106; @ MHz: 5; Acl, min stable gain(V/V): 7; BW @ Acl(MHz): 340; Iib(Max)(nA): 0.02; Io(Typ)(mA): 70; Iq per channel(Max)(mA): 16.3; Number of Channels: 1; Settling Time (0.1%)(Typ)(ns): 11; Slew Rate(Typ)(V/us): 700; Sub Family: High Output Current Amplifier (>=50mA), High Speed Amplifier (>=50MHz); THD (Fc is 1 MHz)(Typ)(dB): -72; Vio(Max)(mV): 0.6; Vs(Max)(V): 12; Vs(Min)(V): 8; DatasheetVersion: SBOS197E; PackageVersion: 4073253-4/K, 03/2006; PackageReference: DBV5; PackageDescription: 5-Pin Plastic Small Outline, Body 1.6 x 2.9 mm, Pitch 0.95 mm; Supplier 1: Digi-Key; Supplier Part Number 1: OPA657N/250TR-ND; Supplier 2: Digi-Key; Supplier Part Number 2: OPA657N/250CT-ND; Supplier 3: Digi-Key; Supplier Part Number 3: OPA657N/250DKR-ND; Supplier 4: Farnell; Supplier Part Number 4: 1577159; Supplier 5: Newark; Supplier Part Number 5: 75C5141; Supplier 6: Mouser; Supplier Part Number 6: 595-OPA657N/250; Eco-Plan: Green (RoHS & no Sb/Br); Vn at Flatband(Typ)(nV/rtHz): 5; Mounting Technology: Surface Mount; Code_JEDEC: MO-178; ComponentLink1Description: Manufacturer URL; ComponentLink1URL: http://www.ti.com/; ComponentLink2Description: Datasheet; ComponentLink2URL: http://www.ti.com/general/docs/lit/getliterature.tsp?genericPartNumber=OPA657&fileType=pdf; ComponentLink3Description: Package Specification; ComponentLink3URL: http://www.ti.com/litv/pdf/mpds018i
footprint TI-DBV5_N (SOT23, 5-Leads, Body 2.9x1.6mm, Pitch 0.95mm, IPC Medium Density)
footprint TI-DBV5_L (SOT23, 5-Leads, Body 2.9x1.6mm, Pitch 0.95mm, IPC High Density)
footprint TI-DBV5_M (SOT23, 5-Leads, Body 2.9x1.6mm, Pitch 0.95mm, IPC Low Density)
pins: 1 OUT (out), 2 VS- (power), 3 IN+ (in), 4 IN- (in), 5 VS+ (power)

## OPA657N/250G4
designator U?
1.6 GHz, Low Noise, Fet-Input Operational Amplifier, 8 to 12 V, -40 to 85 degC, 5-pin SOT23 (DBV5), Green (RoHS & no Sb/Br); Manufacturer: Texas Instruments; PartNumber: OPA657N/250G4; 2nd Harmonic(dBc): 74; 3rd Harmonic(dBc): 106; @ MHz: 5; Acl, min stable gain(V/V): 7; BW @ Acl(MHz): 340; Iib(Max)(nA): 0.02; Io(Typ)(mA): 70; Iq per channel(Max)(mA): 16.3; Number of Channels: 1; Settling Time (0.1%)(Typ)(ns): 11; Slew Rate(Typ)(V/us): 700; Sub Family: High Output Current Amplifier (>=50mA), High Speed Amplifier (>=50MHz); THD (Fc is 1 MHz)(Typ)(dB): -72; Vio(Max)(mV): 0.6; Vs(Max)(V): 12; Vs(Min)(V): 8; DatasheetVersion: SBOS197E; PackageVersion: 4073253-4/K, 03/2006; PackageReference: DBV5; PackageDescription: 5-Pin Plastic Small Outline, Body 1.6 x 2.9 mm, Pitch 0.95 mm; Supplier 1: Digi-Key; Supplier Part Number 1: OPA657N/250G4-ND; Supplier 2: Newark; Supplier Part Number 2: 14M2151; Supplier 3: Mouser; Supplier Part Number 3: 595-OPA657N/250G4; Eco-Plan: Green (RoHS & no Sb/Br); Vn at Flatband(Typ)(nV/rtHz): 5; Mounting Technology: Surface Mount; Code_JEDEC: MO-178; ComponentLink1Description: Manufacturer URL; ComponentLink1URL: http://www.ti.com/; ComponentLink2Description: Datasheet; ComponentLink2URL: http://www.ti.com/general/docs/lit/getliterature.tsp?genericPartNumber=OPA657&fileType=pdf; ComponentLink3Description: Package Specification; ComponentLink3URL: http://www.ti.com/litv/pdf/mpds018i
footprint TI-DBV5_N (SOT23, 5-Leads, Body 2.9x1.6mm, Pitch 0.95mm, IPC Medium Density)
footprint TI-DBV5_L (SOT23, 5-Leads, Body 2.9x1.6mm, Pitch 0.95mm, IPC High Density)
footprint TI-DBV5_M (SOT23, 5-Leads, Body 2.9x1.6mm, Pitch 0.95mm, IPC Low Density)
pins: 1 OUT (out), 2 VS- (power), 3 IN+ (in), 4 IN- (in), 5 VS+ (power)

## OPA657NB/250
designator U?
1.6 GHz, Low Noise, Fet-Input Operational Amplifier, 8 to 12 V, -40 to 85 degC, 5-pin SOT23 (DBV5), Green (RoHS & no Sb/Br); Manufacturer: Texas Instruments; PartNumber: OPA657NB/250; 2nd Harmonic(dBc): 74; 3rd Harmonic(dBc): 106; @ MHz: 5; Acl, min stable gain(V/V): 7; BW @ Acl(MHz): 340; Iib(Max)(nA): 0.02; Io(Typ)(mA): 70; Iq per channel(Max)(mA): 16.3; Number of Channels: 1; Settling Time (0.1%)(Typ)(ns): 11; Slew Rate(Typ)(V/us): 700; Sub Family: High Output Current Amplifier (>=50mA), High Speed Amplifier (>=50MHz); THD (Fc is 1 MHz)(Typ)(dB): -72; Vio(Max)(mV): 0.6; Vs(Max)(V): 12; Vs(Min)(V): 8; DatasheetVersion: SBOS197E; PackageVersion: 4073253-4/K, 03/2006; PackageReference: DBV5; PackageDescription: 5-Pin Plastic Small Outline, Body 1.6 x 2.9 mm, Pitch 0.95 mm; Supplier 1: Digi-Key; Supplier Part Number 1: OPA657NB/250TR-ND; Supplier 2: Digi-Key; Supplier Part Number 2: OPA657NB/250CT-ND; Supplier 3: Digi-Key; Supplier Part Number 3: OPA657NB/250DKR-ND; Supplier 4: Farnell; Supplier Part Number 4: 1577160; Supplier 5: Newark; Supplier Part Number 5: 75C5143; Supplier 6: Mouser; Supplier Part Number 6: 595-OPA657NB/250; Eco-Plan: Green (RoHS & no Sb/Br); Vn at Flatband(Typ)(nV/rtHz): 5; Mounting Technology: Surface Mount; Code_JEDEC: MO-178; ComponentLink1Description: Manufacturer URL; ComponentLink1URL: http://www.ti.com/; ComponentLink2Description: Datasheet; ComponentLink2URL: http://www.ti.com/general/docs/lit/getliterature.tsp?genericPartNumber=OPA657&fileType=pdf; ComponentLink3Description: Package Specification; ComponentLink3URL: http://www.ti.com/litv/pdf/mpds018i
footprint TI-DBV5_N (SOT23, 5-Leads, Body 2.9x1.6mm, Pitch 0.95mm, IPC Medium Density)
footprint TI-DBV5_L (SOT23, 5-Leads, Body 2.9x1.6mm, Pitch 0.95mm, IPC High Density)
footprint TI-DBV5_M (SOT23, 5-Leads, Body 2.9x1.6mm, Pitch 0.95mm, IPC Low Density)
pins: 1 OUT (out), 2 VS- (power), 3 IN+ (in), 4 IN- (in), 5 VS+ (power)

## OPA657NB/250G4
designator U?
1.6 GHz, Low Noise, Fet-Input Operational Amplifier, 8 to 12 V, -40 to 85 degC, 5-pin SOT23 (DBV5), Green (RoHS & no Sb/Br); Manufacturer: Texas Instruments; PartNumber: OPA657NB/250G4; 2nd Harmonic(dBc): 74; 3rd Harmonic(dBc): 106; @ MHz: 5; Acl, min stable gain(V/V): 7; BW @ Acl(MHz): 340; Iib(Max)(nA): 0.02; Io(Typ)(mA): 70; Iq per channel(Max)(mA): 16.3; Number of Channels: 1; Settling Time (0.1%)(Typ)(ns): 11; Slew Rate(Typ)(V/us): 700; Sub Family: High Output Current Amplifier (>=50mA), High Speed Amplifier (>=50MHz); THD (Fc is 1 MHz)(Typ)(dB): -72; Vio(Max)(mV): 0.6; Vs(Max)(V): 12; Vs(Min)(V): 8; DatasheetVersion: SBOS197E; PackageVersion: 4073253-4/K, 03/2006; PackageReference: DBV5; PackageDescription: 5-Pin Plastic Small Outline, Body 1.6 x 2.9 mm, Pitch 0.95 mm; Supplier 1: Digi-Key; Supplier Part Number 1: OPA657NB/250G4-ND; Supplier 2: Newark; Supplier Part Number 2: 14M2152; Supplier 3: Mouser; Supplier Part Number 3: 595-OPA657NB/250G4; Eco-Plan: Green (RoHS & no Sb/Br); Vn at Flatband(Typ)(nV/rtHz): 5; Mounting Technology: Surface Mount; Code_JEDEC: MO-178; ComponentLink1Description: Manufacturer URL; ComponentLink1URL: http://www.ti.com/; ComponentLink2Description: Datasheet; ComponentLink2URL: http://www.ti.com/general/docs/lit/getliterature.tsp?genericPartNumber=OPA657&fileType=pdf; ComponentLink3Description: Package Specification; ComponentLink3URL: http://www.ti.com/litv/pdf/mpds018i
footprint TI-DBV5_N (SOT23, 5-Leads, Body 2.9x1.6mm, Pitch 0.95mm, IPC Medium Density)
footprint TI-DBV5_L (SOT23, 5-Leads, Body 2.9x1.6mm, Pitch 0.95mm, IPC High Density)
footprint TI-DBV5_M (SOT23, 5-Leads, Body 2.9x1.6mm, Pitch 0.95mm, IPC Low Density)
pins: 1 OUT (out), 2 VS- (power), 3 IN+ (in), 4 IN- (in), 5 VS+ (power)

## OPA657U
designator U?
1.6 GHz, Low Noise, Fet-Input Operational Amplifier, 8 to 12 V, -40 to 85 degC, 8-pin SOIC (D8), Green (RoHS & no Sb/Br); Manufacturer: Texas Instruments; PartNumber: OPA657U; 2nd Harmonic(dBc): 74; 3rd Harmonic(dBc): 106; @ MHz: 5; Acl, min stable gain(V/V): 7; BW @ Acl(MHz): 340; Iib(Max)(nA): 0.02; Io(Typ)(mA): 70; Iq per channel(Max)(mA): 16.3; Number of Channels: 1; Settling Time (0.1%)(Typ)(ns): 11; Slew Rate(Typ)(V/us): 700; Sub Family: High Output Current Amplifier (>=50mA), High Speed Amplifier (>=50MHz); THD (Fc is 1 MHz)(Typ)(dB): -72; Vio(Max)(mV): 0.6; Vs(Max)(V): 12; Vs(Min)(V): 8; DatasheetVersion: SBOS197E; PackageVersion: 4040047-3/M, 06/2011; PackageReference: D8; PackageDescription: 8-Pin Plastic Small Outline, Body 4.9 x 3.9 mm, Pitch 1.27 mm; Supplier 1: Digi-Key; Supplier Part Number 1: OPA657U-ND; Supplier 2: Farnell; Supplier Part Number 2: 1212326; Supplier 3: Newark; Supplier Part Number 3: 75C5145; Supplier 4: Mouser; Supplier Part Number 4: 595-OPA657U; Eco-Plan: Green (RoHS & no Sb/Br); Vn at Flatband(Typ)(nV/rtHz): 5; Mounting Technology: Surface Mount; Code_JEDEC: MS-012; ComponentLink1Description: Manufacturer URL; ComponentLink1URL: http://www.ti.com/; ComponentLink2Description: Datasheet; ComponentLink2URL: http://www.ti.com/general/docs/lit/getliterature.tsp?genericPartNumber=OPA657&fileType=pdf; ComponentLink3Description: Package Specification; ComponentLink3URL: http://www.ti.com/litv/pdf/msoi002j
footprint TI-D8_N (SOIC, 8-Leads, Body 4.9x3.9mm, Pitch 1.27mm, IPC Medium Density)
footprint TI-D8_L (SOIC, 8-Leads, Body 4.9x3.9mm, Pitch 1.27mm, IPC High Density)
footprint TI-D8_M (SOIC, 8-Leads, Body 4.9x3.9mm, Pitch 1.27mm, IPC Low Density)
part A pins: 2 IN- (in), 3 IN+ (in), 4 VS- (power), 6 OUT (out), 7 VS+ (power)
part B pins: 1 NC, 5 NC, 8 NC

## OPA657U/2K5
designator U?
1.6 GHz, Low Noise, Fet-Input Operational Amplifier, 8 to 12 V, -40 to 85 degC, 8-pin SOIC (D8), Green (RoHS & no Sb/Br); Manufacturer: Texas Instruments; PartNumber: OPA657U/2K5; 2nd Harmonic(dBc): 74; 3rd Harmonic(dBc): 106; @ MHz: 5; Acl, min stable gain(V/V): 7; BW @ Acl(MHz): 340; Iib(Max)(nA): 0.02; Io(Typ)(mA): 70; Iq per channel(Max)(mA): 16.3; Number of Channels: 1; Settling Time (0.1%)(Typ)(ns): 11; Slew Rate(Typ)(V/us): 700; Sub Family: High Output Current Amplifier (>=50mA), High Speed Amplifier (>=50MHz); THD (Fc is 1 MHz)(Typ)(dB): -72; Vio(Max)(mV): 0.6; Vs(Max)(V): 12; Vs(Min)(V): 8; DatasheetVersion: SBOS197E; PackageVersion: 4040047-3/M, 06/2011; PackageReference: D8; PackageDescription: 8-Pin Plastic Small Outline, Body 4.9 x 3.9 mm, Pitch 1.27 mm; Supplier 1: Digi-Key; Supplier Part Number 1: OPA657U/2K5-ND; Supplier 2: Newark; Supplier Part Number 2: 75C5146; Supplier 3: Mouser; Supplier Part Number 3: 595-OPA657U/2K5; Eco-Plan: Green (RoHS & no Sb/Br); Vn at Flatband(Typ)(nV/rtHz): 5; Mounting Technology: Surface Mount; Code_JEDEC: MS-012; ComponentLink1Description: Manufacturer URL; ComponentLink1URL: http://www.ti.com/; ComponentLink2Description: Datasheet; ComponentLink2URL: http://www.ti.com/general/docs/lit/getliterature.tsp?genericPartNumber=OPA657&fileType=pdf; ComponentLink3Description: Package Specification; ComponentLink3URL: http://www.ti.com/litv/pdf/msoi002j
footprint TI-D8_N (SOIC, 8-Leads, Body 4.9x3.9mm, Pitch 1.27mm, IPC Medium Density)
footprint TI-D8_L (SOIC, 8-Leads, Body 4.9x3.9mm, Pitch 1.27mm, IPC High Density)
footprint TI-D8_M (SOIC, 8-Leads, Body 4.9x3.9mm, Pitch 1.27mm, IPC Low Density)
part A pins: 2 IN- (in), 3 IN+ (in), 4 VS- (power), 6 OUT (out), 7 VS+ (power)
part B pins: 1 NC, 5 NC, 8 NC

## OPA657U/2K5G4
designator U?
1.6 GHz, Low Noise, Fet-Input Operational Amplifier, 8 to 12 V, -40 to 85 degC, 8-pin SOIC (D8), Green (RoHS & no Sb/Br); Manufacturer: Texas Instruments; PartNumber: OPA657U/2K5G4; 2nd Harmonic(dBc): 74; 3rd Harmonic(dBc): 106; @ MHz: 5; Acl, min stable gain(V/V): 7; BW @ Acl(MHz): 340; Iib(Max)(nA): 0.02; Io(Typ)(mA): 70; Iq per channel(Max)(mA): 16.3; Number of Channels: 1; Settling Time (0.1%)(Typ)(ns): 11; Slew Rate(Typ)(V/us): 700; Sub Family: High Output Current Amplifier (>=50mA), High Speed Amplifier (>=50MHz); THD (Fc is 1 MHz)(Typ)(dB): -72; Vio(Max)(mV): 0.6; Vs(Max)(V): 12; Vs(Min)(V): 8; DatasheetVersion: SBOS197E; PackageVersion: 4040047-3/M, 06/2011; PackageReference: D8; PackageDescription: 8-Pin Plastic Small Outline, Body 4.9 x 3.9 mm, Pitch 1.27 mm; Supplier 1: Digi-Key; Supplier Part Number 1: OPA657U/2K5G4-ND; Supplier 2: Newark; Supplier Part Number 2: 18M2708; Supplier 3: Mouser; Supplier Part Number 3: 595-OPA657U/2K5G4; Eco-Plan: Green (RoHS & no Sb/Br); Vn at Flatband(Typ)(nV/rtHz): 5; Mounting Technology: Surface Mount; Code_JEDEC: MS-012; ComponentLink1Description: Manufacturer URL; ComponentLink1URL: http://www.ti.com/; ComponentLink2Description: Datasheet; ComponentLink2URL: http://www.ti.com/general/docs/lit/getliterature.tsp?genericPartNumber=OPA657&fileType=pdf; ComponentLink3Description: Package Specification; ComponentLink3URL: http://www.ti.com/litv/pdf/msoi002j
footprint TI-D8_N (SOIC, 8-Leads, Body 4.9x3.9mm, Pitch 1.27mm, IPC Medium Density)
footprint TI-D8_L (SOIC, 8-Leads, Body 4.9x3.9mm, Pitch 1.27mm, IPC High Density)
footprint TI-D8_M (SOIC, 8-Leads, Body 4.9x3.9mm, Pitch 1.27mm, IPC Low Density)
part A pins: 2 IN- (in), 3 IN+ (in), 4 VS- (power), 6 OUT (out), 7 VS+ (power)
part B pins: 1 NC, 5 NC, 8 NC

## OPA657UB
designator U?
1.6 GHz, Low Noise, Fet-Input Operational Amplifier, 8 to 12 V, -40 to 85 degC, 8-pin SOIC (D8), Green (RoHS & no Sb/Br); Manufacturer: Texas Instruments; PartNumber: OPA657UB; 2nd Harmonic(dBc): 74; 3rd Harmonic(dBc): 106; @ MHz: 5; Acl, min stable gain(V/V): 7; BW @ Acl(MHz): 340; Iib(Max)(nA): 0.02; Io(Typ)(mA): 70; Iq per channel(Max)(mA): 16.3; Number of Channels: 1; Settling Time (0.1%)(Typ)(ns): 11; Slew Rate(Typ)(V/us): 700; Sub Family: High Output Current Amplifier (>=50mA), High Speed Amplifier (>=50MHz); THD (Fc is 1 MHz)(Typ)(dB): -72; Vio(Max)(mV): 0.6; Vs(Max)(V): 12; Vs(Min)(V): 8; DatasheetVersion: SBOS197E; PackageVersion: 4040047-3/M, 06/2011; PackageReference: D8; PackageDescription: 8-Pin Plastic Small Outline, Body 4.9 x 3.9 mm, Pitch 1.27 mm; Supplier 1: Digi-Key; Supplier Part Number 1: OPA657UB-ND; Supplier 2: Farnell; Supplier Part Number 2: 1212327; Supplier 3: Newark; Supplier Part Number 3: 75C5147; Supplier 4: Mouser; Supplier Part Number 4: 595-OPA657UB; Eco-Plan: Green (RoHS & no Sb/Br); Vn at Flatband(Typ)(nV/rtHz): 5; Mounting Technology: Surface Mount; Code_JEDEC: MS-012; ComponentLink1Description: Manufacturer URL; ComponentLink1URL: http://www.ti.com/; ComponentLink2Description: Datasheet; ComponentLink2URL: http://www.ti.com/general/docs/lit/getliterature.tsp?genericPartNumber=OPA657&fileType=pdf; ComponentLink3Description: Package Specification; ComponentLink3URL: http://www.ti.com/litv/pdf/msoi002j
footprint TI-D8_N (SOIC, 8-Leads, Body 4.9x3.9mm, Pitch 1.27mm, IPC Medium Density)
footprint TI-D8_L (SOIC, 8-Leads, Body 4.9x3.9mm, Pitch 1.27mm, IPC High Density)
footprint TI-D8_M (SOIC, 8-Leads, Body 4.9x3.9mm, Pitch 1.27mm, IPC Low Density)
part A pins: 2 IN- (in), 3 IN+ (in), 4 VS- (power), 6 OUT (out), 7 VS+ (power)
part B pins: 1 NC, 5 NC, 8 NC

## OPA657UBG4
designator U?
1.6 GHz, Low Noise, Fet-Input Operational Amplifier, 8 to 12 V, -40 to 85 degC, 8-pin SOIC (D8), Green (RoHS & no Sb/Br); Manufacturer: Texas Instruments; PartNumber: OPA657UBG4; 2nd Harmonic(dBc): 74; 3rd Harmonic(dBc): 106; @ MHz: 5; Acl, min stable gain(V/V): 7; BW @ Acl(MHz): 340; Iib(Max)(nA): 0.02; Io(Typ)(mA): 70; Iq per channel(Max)(mA): 16.3; Number of Channels: 1; Settling Time (0.1%)(Typ)(ns): 11; Slew Rate(Typ)(V/us): 700; Sub Family: High Output Current Amplifier (>=50mA), High Speed Amplifier (>=50MHz); THD (Fc is 1 MHz)(Typ)(dB): -72; Vio(Max)(mV): 0.6; Vs(Max)(V): 12; Vs(Min)(V): 8; DatasheetVersion: SBOS197E; PackageVersion: 4040047-3/M, 06/2011; PackageReference: D8; PackageDescription: 8-Pin Plastic Small Outline, Body 4.9 x 3.9 mm, Pitch 1.27 mm; Supplier 1: Digi-Key; Supplier Part Number 1: OPA657UBG4-ND; Supplier 2: Mouser; Supplier Part Number 2: 595-OPA657UBG4; Eco-Plan: Green (RoHS & no Sb/Br); Vn at Flatband(Typ)(nV/rtHz): 5; Mounting Technology: Surface Mount; Code_JEDEC: MS-012; ComponentLink1Description: Manufacturer URL; ComponentLink1URL: http://www.ti.com/; ComponentLink2Description: Datasheet; ComponentLink2URL: http://www.ti.com/general/docs/lit/getliterature.tsp?genericPartNumber=OPA657&fileType=pdf; ComponentLink3Description: Package Specification; ComponentLink3URL: http://www.ti.com/litv/pdf/msoi002j
footprint TI-D8_N (SOIC, 8-Leads, Body 4.9x3.9mm, Pitch 1.27mm, IPC Medium Density)
footprint TI-D8_L (SOIC, 8-Leads, Body 4.9x3.9mm, Pitch 1.27mm, IPC High Density)
footprint TI-D8_M (SOIC, 8-Leads, Body 4.9x3.9mm, Pitch 1.27mm, IPC Low Density)
part A pins: 2 IN- (in), 3 IN+ (in), 4 VS- (power), 6 OUT (out), 7 VS+ (power)
part B pins: 1 NC, 5 NC, 8 NC

## OPA657UG4
designator U?
1.6 GHz, Low Noise, Fet-Input Operational Amplifier, 8 to 12 V, -40 to 85 degC, 8-pin SOIC (D8), Green (RoHS & no Sb/Br); Manufacturer: Texas Instruments; PartNumber: OPA657UG4; 2nd Harmonic(dBc): 70; 3rd Harmonic(dBc): 99; @ MHz: 5; Acl, min stable gain(V/V): 7; BW @ Acl(MHz): 350; Iq per channel(Max)(mA): 16.3; Number of Channels: 1; Settling Time (0.1%)(Typ)(ns): 11; Slew Rate(Typ)(V/us): 700; Sub Family: High Output Current Amplifier (>=50mA), High Speed Amplifier (>=50MHz); THD (Fc is 1 MHz)(Typ)(dB): -72; Vio(Max)(mV): 2.6; Vn at Flatband(Typ)(nV/rtHz): 4.8; Vs(Max)(V): 12; Vs(Min)(V): 8; DatasheetVersion: SBOS197E; PackageVersion: 4040047-3/M, 06/2011; PackageReference: D8; PackageDescription: 8-Pin Plastic Small Outline, Body 4.9 x 3.9 mm, Pitch 1.27 mm; Supplier 1: Digi-Key; Supplier Part Number 1: OPA657UG4-ND; Supplier 2: Newark; Supplier Part Number 2: 18M2709; Supplier 3: Mouser; Supplier Part Number 3: 595-OPA657UG4; Eco-Plan: Green (RoHS & no Sb/Br); Iib(Max)(nA): 5; Io(Typ)(mA): 70; Mounting Technology: Surface Mount; Code_JEDEC: MS-012; ComponentLink1Description: Manufacturer URL; ComponentLink1URL: http://www.ti.com/; ComponentLink2Description: Datasheet; ComponentLink2URL: http://www.ti.com/general/docs/lit/getliterature.tsp?genericPartNumber=OPA657&fileType=pdf; ComponentLink3Description: Package Specification; ComponentLink3URL: http://www.ti.com/litv/pdf/msoi002j
footprint TI-D8_N (SOIC, 8-Leads, Body 4.9x3.9mm, Pitch 1.27mm, IPC Medium Density)
footprint TI-D8_L (SOIC, 8-Leads, Body 4.9x3.9mm, Pitch 1.27mm, IPC High Density)
footprint TI-D8_M (SOIC, 8-Leads, Body 4.9x3.9mm, Pitch 1.27mm, IPC Low Density)
part A pins: 2 IN- (in), 3 IN+ (in), 4 VS- (power), 6 OUT (out), 7 VS+ (power)
part B pins: 1 NC, 5 NC, 8 NC

## OPA659IDBVR
designator U?
650 MHz Unity Gain Stable JFET Input Amplifier, 7 to 13 V, -40 to 85 degC, 5-pin SOT23 (DBV5), Green (RoHS & no Sb/Br); Manufacturer: Texas Instruments; PartNumber: OPA659IDBVR; 2nd Harmonic(dBc): 79; 3rd Harmonic(dBc): 100; @ MHz: 10; Acl, min stable gain(V/V): 2; BW @ Acl(MHz): 650; Iib(Max)(nA): 1.2; Io(Typ)(mA): 70; Iq per channel(Max)(mA): 33.5; Number of Channels: 1; Slew Rate(Typ)(V/us): 2550; Sub Family: High Output Current Amplifier (>=50mA), High Speed Amplifier (>=50MHz); THD (Fc is 1 MHz)(Typ)(dB): -78; Vio(Max)(mV): 5; Vn at Flatband(Typ)(nV/rtHz): 8.9; Vs(Max)(V): 13; Vs(Min)(V): 7; DatasheetVersion: SBOS342B; PackageVersion: 4073253-4/K, 03/2006; PackageReference: DBV5; PackageDescription: 5-Pin Plastic Small Outline, Body 1.6 x 2.9 mm, Pitch 0.95 mm; Supplier 1: Digi-Key; Supplier Part Number 1: OPA659IDBVR-ND; Supplier 2: Newark; Supplier Part Number 2: 50R7821; Supplier 3: Mouser; Supplier Part Number 3: 595-OPA659IDBVR; Eco-Plan: Green (RoHS & no Sb/Br); Mounting Technology: Surface Mount; Code_JEDEC: MO-178; ComponentLink1Description: Manufacturer URL; ComponentLink1URL: http://www.ti.com/; ComponentLink2Description: Datasheet; ComponentLink2URL: http://www.ti.com/general/docs/lit/getliterature.tsp?genericPartNumber=OPA659&fileType=pdf; ComponentLink3Description: Package Specification; ComponentLink3URL: http://www.ti.com/litv/pdf/mpds018i
footprint TI-DBV5_N (SOT23, 5-Leads, Body 2.9x1.6mm, Pitch 0.95mm, IPC Medium Density)
footprint TI-DBV5_L (SOT23, 5-Leads, Body 2.9x1.6mm, Pitch 0.95mm, IPC High Density)
footprint TI-DBV5_M (SOT23, 5-Leads, Body 2.9x1.6mm, Pitch 0.95mm, IPC Low Density)
pins: 1 OUT (out), 2 VS- (power), 3 IN+ (in), 4 IN- (in), 5 VS+ (power)